# Altium schematic symbol library Schlib1.SchLib: 7 symbols
Pins are listed as number, name and electrical type; pins without a type are passive.

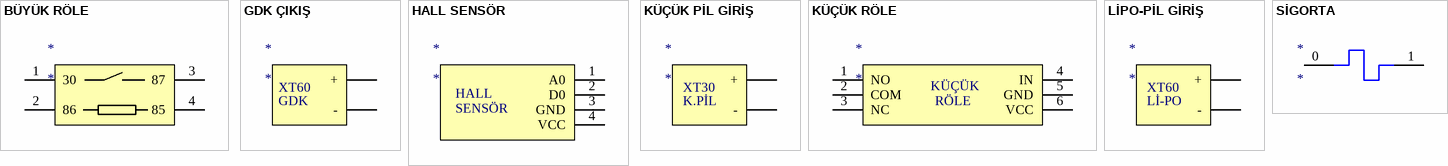
[diagram p0: symbols BÜYÜK RÖLE to SİGORTA]

## BÜYÜK RÖLE
designator *
footprint BÜYÜK RÖLE
pins: 1 30, 2 86, 3 87, 4 85

## GDK ÇIKIŞ
designator *
footprint GDK ÇIKIŞ
pins: 1 +, 2 -
text: XT60; GDK

## HALL SENSÖR
designator *
pins: 1 A0, 2 D0, 3 GND, 4 VCC
text: HALL; SENSÖR

## KÜÇÜK PİL GİRİŞ
designator *
footprint KÜÇÜK PİL GİRİŞ
pins: N -, P +
text: XT30; K.PİL

## KÜÇÜK RÖLE
designator *
footprint KÜÇÜK RÖLE
pins: 1 NO, 2 COM, 3 NC, 4 IN, 5 GND, 6 VCC
text: KÜÇÜK; RÖLE

## LİPO-PİL GİRİŞ
designator *
footprint LİPO-PİL GİRİŞ
pins: 1 +, 2 -
text: XT60; Lİ-PO

## SİGORTA
designator *
footprint SİGORTA
pins: 0, 1